# Altium footprint library Revo_element.PcbLib: 178 footprints (part 2 of 12)
Each footprint in its own frame and in the unit in brackets; x right, y up, seen from the top. Pads: shape width x height; smd on the part's side, far side on the other; paste and mask are expansions set on the pad; w line width, h text height; cw(c..) or ccw(c..) is an arc to the next point about the centre after c.
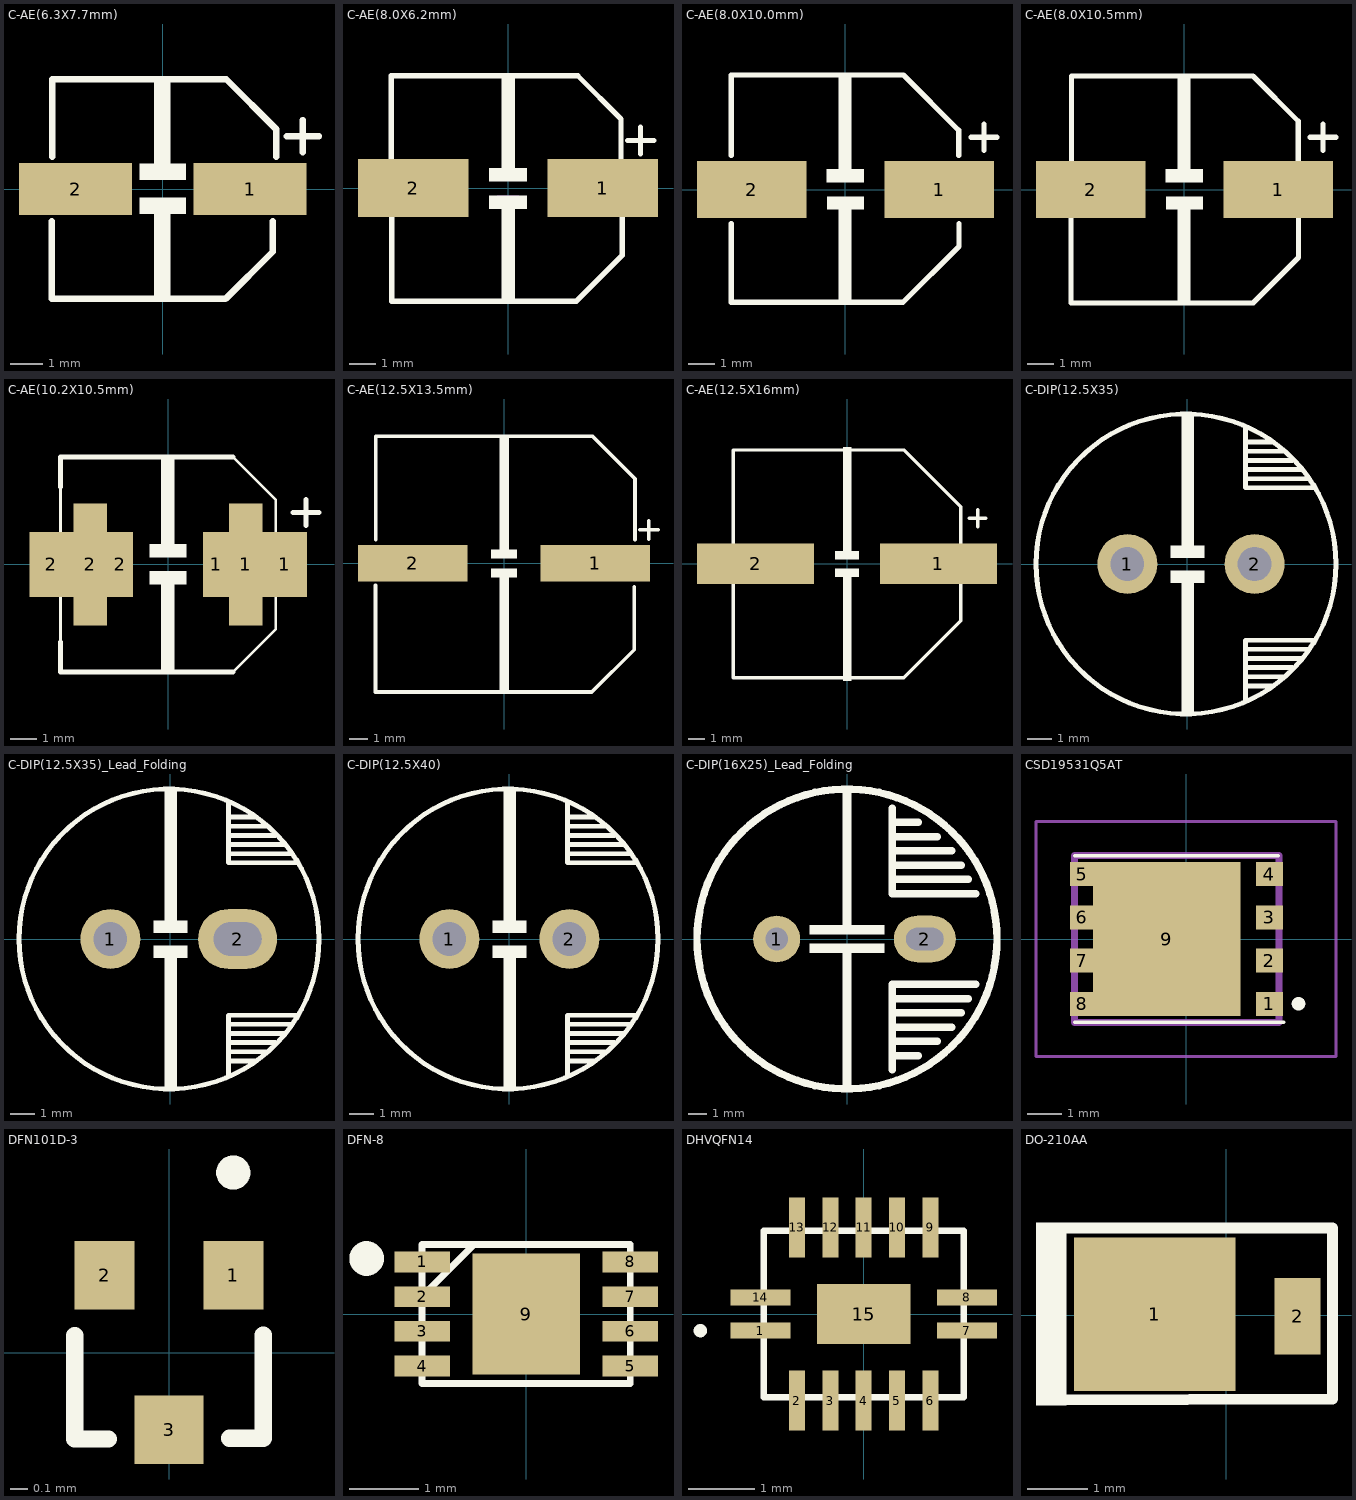
[diagram p1: the footprints below, top view; thin cyan lines are the x and y axes]

## C-AE(6.3X7.7mm) [mm] "SMD Capacitor (6.3-X7.7mm)"
pads (2):
  rect 3.5x1.6 smd: 1(2.7,0) 2(-2.7,0)
Top Overlay:
  region: -0.715,-0.259 -0.715,-0.767 0.716,-0.767 0.716,-0.259
  rectangle: -0.266,-3.441 0.242,-0.414
  region: 0.713,0.278 0.713,0.786 -0.718,0.786 -0.718,0.278
  rectangle: -0.266,0.414 0.242,3.441
  lines w0.2: -3.433,-1 -3.433,-3.403 1.939,-3.403 3.403,-1.939 3.403,-1 ; -3.425,1 -3.425,3.401 1.962,3.401 3.506,1.857 3.506,1 ; 3.835,1.635 4.835,1.635 ; 4.335,1.135 4.335,2.135
3D body "User Library-E-cap_H.STEP": height 7.2, standoff -0.5, extent -3.65,-3.3 3.65,3.3

## C-AE(8.0X6.2mm) [mm] "EEE-FK1H470P"
height 6.2
pads (2):
  rect 4.2x2.2 smd: 1(3.6,0) 2(-3.6,0)
Top Overlay:
  region: 0.715,0.259 0.715,0.767 -0.716,0.767 -0.716,0.259
  region: 0.266,4.286 -0.242,4.286 -0.242,0.414 0.266,0.414
  region: -0.713,-0.278 -0.713,-0.786 0.718,-0.786 0.718,-0.278
  region: 0.266,-0.414 -0.242,-0.414 -0.242,-4.349 0.266,-4.349
  lines w0.2: -4.44,1.1 -4.44,4.272 2.651,4.272 4.296,2.627 4.296,1.1 ; -4.419,-1.1 -4.419,-4.293 2.604,-4.293 4.338,-2.558 4.338,-1.1 ; 4.539,1.811 5.539,1.811 ; 5.039,1.311 5.039,2.311
Mechanical 13:
  lines w0.2: -0.381,-0.381 0.381,-0.381 ; -0.381,0.381 0.381,0.381 ; 0,-1.016 0,-0.508 ; 0,0.508 0,1.016
3D body "CAPAE-D8.0x6.2.stp": height 6.5, standoff 0, extent -4.75,-4.25 4.75,4.25

## C-AE(8.0X10.0mm) [mm] "SMD Capacitor (8.0-X10.0mm)"
pads (2):
  rect 4.2x2.2 smd: 1(3.6,0) 2(-3.6,0)
Top Overlay:
  rectangle: -0.266,0.414 0.242,4.424
  region: 0.713,0.278 0.713,0.786 -0.718,0.786 -0.718,0.278
  rectangle: -0.266,-4.381 0.242,-0.414
  region: -0.715,-0.259 -0.715,-0.767 0.716,-0.767 0.716,-0.259
  lines w0.2: -4.387,-1.305 -4.387,-4.33 2.216,-4.33 4.364,-2.182 4.364,-1.298 ; -4.387,1.305 -4.387,4.4 2.227,4.4 4.349,2.278 4.349,1.311 ; 4.822,2.007 5.822,2.007 ; 5.322,1.507 5.322,2.507
3D body "VEJ101M1HTR-0810.stp": height 10.71, standoff -0.22, extent -4.6,-4.244 4.6,4.794

## C-AE(8.0X10.5mm) [mm] "EEE-FK1H101V"
height 10.5
pads (2):
  rect 4.2x2.2 smd: 1(3.6,0) 2(-3.6,0)
Top Overlay:
  rectangle: -0.266,0.414 0.242,4.424
  region: 0.713,0.278 0.713,0.786 -0.718,0.786 -0.718,0.278
  rectangle: -0.266,-4.381 0.242,-0.414
  region: -0.715,-0.259 -0.715,-0.767 0.716,-0.767 0.716,-0.259
  lines w0.2: -4.352,-1.1 -4.352,-4.36 2.64,-4.36 4.385,-2.615 4.385,-1.1 ; -4.34,1.1 -4.34,4.363 2.637,4.363 4.373,2.627 4.373,1.1 ; 4.822,2.007 5.822,2.007 ; 5.322,1.507 5.322,2.507
Mechanical 13:
  lines w0.2: -0.381,-0.381 0.381,-0.381 ; -0.381,0.381 0.381,0.381 ; 0,-1.016 0,-0.508
3D body "CAPAE-D8.0x6.2.stp": height 6.5, standoff 0, extent -4.75,-4.25 4.75,4.25

## C-AE(10.2X10.5mm) [mm] "SMD Capacitor (12.5X13.5mm)"
pads (6):
  rect 1x2.5 smd: 1(1.85,0) 2(-1.85,0)
  rect 1.3x4.7 smd: 1(3,0) 2(-3,0)
  rect 1.7x2.5 smd: 1(4.5,0) 2(-4.5,0)
Top Overlay:
  region: -0.715,-0.259 -0.715,-0.767 0.716,-0.767 0.716,-0.259
  rectangle: -0.266,-4.158 0.242,-0.414
  region: 0.713,0.278 0.713,0.786 -0.718,0.786 -0.718,0.278
  rectangle: -0.266,0.414 0.242,4.194
  lines w0.1: 2.5,-4.15 -4.15,-4.15 -4.15,4.15 2.5,4.15 4.15,2.5 4.15,-2.5 ; 2.5,-4.15 4.15,-2.5 ; 2.5,-4.15 4.15,-2.5
  lines w0.2: -4.15,-3 -4.15,-4.15 2.5,-4.15 ; -4.15,3 -4.15,4.15 2.5,4.15 ; 4.822,2.007 5.822,2.007 ; 5.322,1.507 5.322,2.507
3D body "EEE-FK1H101GV.stp": height 10.5, standoff 0, extent -4.85,-4.15 4.85,4.15

## C-AE(12.5X13.5mm) [mm] "SMD Capacitor (12.5X13.5mm)"
pads (2):
  rect 6x2 smd: 1(5,0) 2(-5,0)
Top Overlay:
  region: 0.266,-0.414 -0.242,-0.414 -0.242,-6.994 0.266,-6.994
  region: -0.713,-0.278 -0.713,-0.786 0.718,-0.786 0.718,-0.278
  region: 0.266,6.972 -0.242,6.972 -0.242,0.414 0.266,0.414
  region: 0.715,0.259 0.715,0.767 -0.716,0.767 -0.716,0.259
  lines w0.2: -7.04,-1.199 -7.04,-7.047 4.81,-7.047 7.128,-4.729 7.128,-1.3 ; -7.029,1.3 -7.029,6.968 4.834,6.968 7.174,4.628 7.174,1.3 ; 7.432,1.832 8.432,1.832 ; 7.932,1.332 7.932,2.332
3D body "PCAP-12_5Dx13_5H_NCA.step": height 14.56, standoff 0, extent -6.929,-6.943 7.067,6.849

## C-AE(12.5X16mm) [mm] "SMD Capacitor (12.5X16mm)"
pads (2):
  rect 7x2.4 smd: 1(5.461,0) 2(-5.461,0)
Top Overlay:
  region: 0.266,-0.414 -0.242,-0.414 -0.242,-6.994 0.266,-6.994
  region: -0.713,-0.278 -0.713,-0.786 0.718,-0.786 0.718,-0.278
  region: 0.266,6.972 -0.242,6.972 -0.242,0.414 0.266,0.414
  region: 0.715,0.259 0.715,0.767 -0.716,0.767 -0.716,0.259
  lines w0.2: 7.305,2.721 8.305,2.721 ; 7.805,2.221 7.805,3.221 ; -6.8,-6.8 -6.8,6.8 3.4,6.8 6.8,3.4 6.8,-3.4 3.4,-6.8 -6.8,-6.8
3D body "UUJ2W4R7MNQ1MS.stp": height 17, standoff 0, extent -7,-6.9 7,6.9

## C-DIP(12.5X35) [mm]
pads (2):
  round 2.5 hole 1.4: 1(-2.5,0) 2(2.8,0)
Top Overlay:
  circle w0.2: c-0.06,0 r6.25
  region: 0.715,0.259 0.715,0.767 -0.716,0.767 -0.716,0.259
  region: 0.266,6.223 -0.242,6.223 -0.242,0.414 0.266,0.414
  region: -0.713,-0.278 -0.713,-0.786 0.718,-0.786 0.718,-0.278
  region: 0.266,-0.414 -0.242,-0.414 -0.242,-6.223 0.266,-6.223
  lines w0.2: 2.413,-5.672 2.413,-3.175 5.289,-3.175 ; 2.413,-5.08 3.543,-5.08 ; 2.413,-4.699 4.028,-4.699 ; 2.413,-4.318 4.371,-4.318 ; 2.413,-3.937 4.756,-3.937 ; 2.413,-3.556 5.054,-3.556 ; 2.413,3.556 5.054,3.556 ; 2.413,3.937 4.756,3.937 ; 2.413,4.318 4.371,4.318 ; 2.413,4.699 4.028,4.699 ; 2.413,5.08 3.543,5.08 ; 2.413,5.672 2.413,3.175 5.289,3.175
3D body "cap_el_vertical_d12.5_h35_p5_w0.6.stp": height 35.01, standoff -3, extent -6.25,-6.249 6.251,6.249

## C-DIP(12.5X35)_Lead_Folding [mm]
pads (2):
  round 2.5 hole 1.4: 1(-2.5,0)
  rrect100% 3.3x2.5 hole 1.4 slot 2 at 0 deg: 2(2.8,0)
Top Overlay:
  circle w0.2: c-0.06,0 r6.25
  region: 0.266,-0.414 -0.242,-0.414 -0.242,-6.223 0.266,-6.223
  region: -0.713,-0.278 -0.713,-0.786 0.718,-0.786 0.718,-0.278
  region: 0.266,6.223 -0.242,6.223 -0.242,0.414 0.266,0.414
  region: 0.715,0.259 0.715,0.767 -0.716,0.767 -0.716,0.259
  lines w0.2: 2.413,-5.672 2.413,-3.175 5.289,-3.175 ; 2.413,-5.08 3.543,-5.08 ; 2.413,-4.699 4.028,-4.699 ; 2.413,-4.318 4.371,-4.318 ; 2.413,-3.937 4.756,-3.937 ; 2.413,-3.556 5.054,-3.556 ; 2.413,3.556 5.054,3.556 ; 2.413,3.937 4.756,3.937 ; 2.413,4.318 4.371,4.318 ; 2.413,4.699 4.028,4.699 ; 2.413,5.08 3.543,5.08 ; 2.413,5.672 2.413,3.175 5.289,3.175
3D body "cap_el_vertical_d12.5_h35_p5_w0.6.stp": height 35.01, standoff -3, extent -6.25,-6.249 6.251,6.249

## C-DIP(12.5X40) [mm]
pads (2):
  round 2.5 hole 1.4: 1(-2.5,0) 2(2.5,0)
Top Overlay:
  circle w0.2: c-0.06,0 r6.25
  region: 0.715,0.259 0.715,0.767 -0.716,0.767 -0.716,0.259
  region: 0.266,6.223 -0.242,6.223 -0.242,0.414 0.266,0.414
  region: -0.713,-0.278 -0.713,-0.786 0.718,-0.786 0.718,-0.278
  region: 0.266,-0.414 -0.242,-0.414 -0.242,-6.223 0.266,-6.223
  lines w0.2: 2.413,-5.672 2.413,-3.175 5.289,-3.175 ; 2.413,-5.08 3.543,-5.08 ; 2.413,-4.699 4.028,-4.699 ; 2.413,-4.318 4.371,-4.318 ; 2.413,-3.937 4.756,-3.937 ; 2.413,-3.556 5.054,-3.556 ; 2.413,3.556 5.054,3.556 ; 2.413,3.937 4.756,3.937 ; 2.413,4.318 4.371,4.318 ; 2.413,4.699 4.028,4.699 ; 2.413,5.08 3.543,5.08 ; 2.413,5.672 2.413,3.175 5.289,3.175
3D body "cap_el_vertical_d12.5_h40_p5_w0.6.stp": height 40.01, standoff -3, extent -6.31,-6.234 6.191,6.236

## C-DIP(16X25)_Lead_Folding [mm]
pads (2):
  round 2.5 hole 1.2: 1(-3.75,0)
  rrect100% 3.3x2.5 hole 1.2 slot 2 at 0 deg: 2(4.15,0)
Top Overlay:
  circle w0.4: c0,0 r8
  region: 2,0.25 2,0.75 -2,0.75 -2,0.25
  region: 0.25,8 -0.25,8 -0.25,0.5 0.25,0.5
  region: -2,-0.25 -2,-0.75 2,-0.75 2,-0.25
  region: 0.25,-0.5 -0.25,-0.5 -0.25,-8 0.25,-8
  lines w0.4: 2.413,-6.985 2.413,-2.413 6.858,-2.413 ; 2.413,-6.223 3.81,-6.223 ; 2.413,-5.461 4.826,-5.461 ; 2.413,-4.699 5.588,-4.699 ; 2.413,-3.937 6.096,-3.937 ; 2.413,-3.175 6.477,-3.175 ; 2.413,3.175 6.477,3.175 ; 2.413,3.937 6.096,3.937 ; 2.413,4.699 5.588,4.699 ; 2.413,5.461 4.826,5.461 ; 2.413,6.223 3.81,6.223 ; 2.413,6.985 2.413,2.413 6.858,2.413
3D body "ELCO-D16P7.5H25LD0.8.stp": height 25.02, standoff -3.6, extent -8,-8 8,8

## CSD19531Q5AT [mm]
pads (9):
  rect 0.8x0.7 smd: 1(2.451,-1.905) 2(2.451,-0.635) 3(2.451,0.635) 4(2.451,1.905)
  rect 0.68x0.7 smd: 5(-3.064,1.905) 6(-3.064,0.635) 7(-3.064,-0.635) 8(-3.064,-1.905)
  rect 4.32x4.51 smd: 9(-0.564,0)
Top Overlay:
  lines w0.1: -3.271,-2.45 2.868,-2.45 ; -3.271,2.45 2.704,2.45
  lines w0.2: 3.304,-2 ccw(c3.304,-1.9) 3.304,-1.8 ccw(c3.304,-1.9) 3.304,-2
Mechanical 13:
  lines w0.2: -3.271,-2.45 2.729,-2.45 2.729,2.45 -3.271,2.45 -3.271,-2.45
Mechanical 15:
  lines w0.1: -4.404,-3.45 4.404,-3.45 4.404,3.45 -4.404,3.45 -4.404,-3.45
3D body "CSD19533Q5A.stp": height 1.15, standoff 0, extent -3.38,-2.45 2.88,2.45

## DFN101D-3 [mm]
pads (3):
  rect 0.35x0.4 smd: 1(0.375,0.45) 2(-0.375,0.45)
  rect 0.4x0.4 smd: 3(0,-0.45)
Top Overlay:
  lines w0.1: -0.55,0.1 -0.55,-0.505 -0.352,-0.505 ; 0.352,-0.5 0.55,-0.5 0.55,0.102 ; 0.375,1 cw(c0.375,1.05) 0.375,1.1 cw(c0.375,1.05) 0.375,1
3D body "BAV23QAZ.stp": height 0.38, standoff 0, extent -0.549,-0.5 0.551,0.51

## DFN-8 [mm]
pads (9):
  rect 0.8x0.3 smd: 1(-1.5,0.75) 2(-1.5,0.25) 3(-1.5,-0.25) 4(-1.5,-0.75) 5(1.5,-0.75) 6(1.5,-0.25) 7(1.5,0.25) 8(1.5,0.75)
  rect 1.55x1.75 smd: 9(0,0)
Top Overlay:
  circle w0.25: c-2.3,0.8 r0.125
  lines w0.1: -1.5,0.25 -0.75,1 ; -1.5,-1 1.5,-1 1.5,1 -1.5,1 -1.5,-1
3D body "MCP73832-2ATI_MC.stp": height 1, standoff 0, extent -1.55,-1 1.55,1

## DHVQFN14 [mm]
pads (15):
  rect 0.9x0.24 smd: 1(-1.55,-0.25) 7(1.55,-0.25) 8(1.55,0.25) 14(-1.55,0.25)
  rect 0.24x0.9 smd: 2(-1,-1.3) 3(-0.5,-1.3) 4(0,-1.3) 5(0.5,-1.3) 6(1,-1.3) 9(1,1.3) 10(0.5,1.3) 11(0,1.3) 12(-0.5,1.3) 13(-1,1.3)
  rect 1.4x0.9 smd: 15(0,0)
Top Overlay:
  lines w0.1: -2.5,-0.25 cw(c-2.45,-0.25) -2.4,-0.25 cw(c-2.45,-0.25) -2.5,-0.25 ; -1.5,-1.25 1.5,-1.25 1.5,1.25 -1.5,1.25 -1.5,-1.25
3D body "74LVC125ABQ-Q100X.stp": height 0.85, standoff 0, extent -1.498,-1.25 1.504,1.252

## DO-210AA [mm]
pads (2):
  rect 2.67x2.54 smd: 1(-1.179,0.018)
  rect 0.762x1.27 smd: 2(1.179,-0.018)
Top Overlay:
  rectangle: -3.145,-1.49 -2.637,1.53
  lines w0.178: -2.997,-1.4 1.755,-1.387 1.755,1.441 -2.871,1.441
3D body "User Library-DO-220AA.step": height 1.15, standoff 0, extent -2.423,-1.17 1.506,1.137